# Altium footprint library dc-jack.PcbLib: 1 footprints
Each footprint in its own frame and in the unit in brackets; x right, y up, seen from the top. Pads: shape width x height; smd on the part's side, far side on the other; paste and mask are expansions set on the pad; w line width, h text height; cw(c..) or ccw(c..) is an arc to the next point about the centre after c.
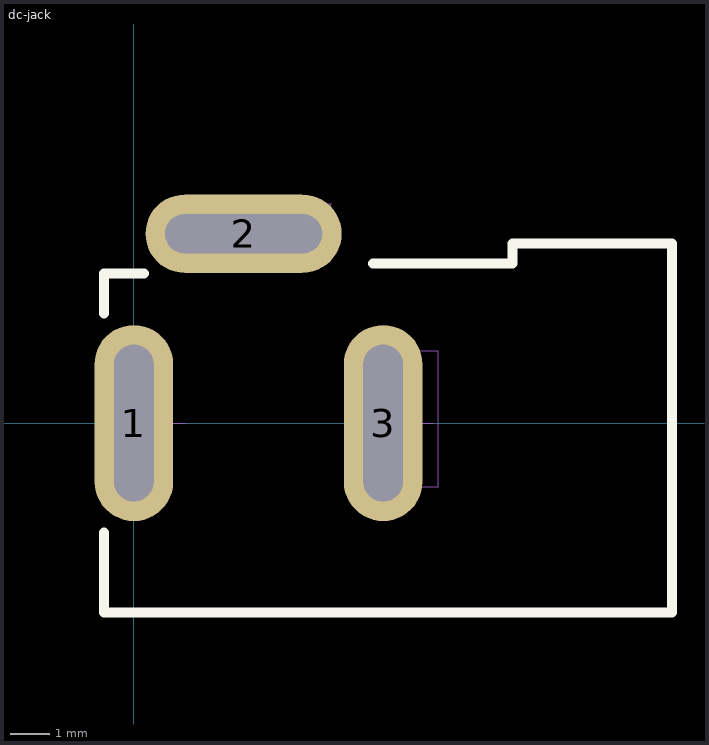
[diagram p0: the footprint, top view; thin cyan lines are the x and y axes]

## dc-jack [mm]
pads (3):
  oval 2x5 hole 1 slot 4 at 90 deg: 1(0,0) 3(6.35,0)
  oval 5x2 hole 1 slot 4 at 0 deg: 2(2.794,4.826)
Top Overlay:
  lines w0.254: -0.762,-2.794 -0.762,-4.826 13.716,-4.826 13.716,4.572 9.652,4.572 9.652,4.064 6.096,4.064 ; -0.762,2.794 -0.762,3.81 0.254,3.81
Mechanical 4:
  lines w0.013: -0.535,-1.621 0.561,-1.621 0.561,1.839 -0.535,1.839 -0.535,-1.62 ; -0.091,-0.002 1.321,-0.002 ; 0.006,-0.7 0.006,0.697 ; 1.529,4.506 1.529,5.585 ; 1.53,4.507 5.022,4.507 ; 1.53,5.585 5.022,5.585 ; 3.164,4.998 3.386,4.998 ; 3.274,4.871 3.274,5.107 ; 5.021,4.506 5.021,5.585 ; 6.226,-0.002 7.623,-0.002 ; 6.655,-1.621 7.75,-1.621 ; 6.656,-1.621 6.656,1.839 7.751,1.839 7.751,-1.621 ; 7.197,-0.7 7.197,0.696
3D body "CLIFF_DC10A_FC68148.step": height 11.3, standoff -3.4, extent -0.762,-4.621 13.538,5.129